# Altium schematic symbol library sch_inductor.SchLib: 1 symbol
Pins are listed as number, name and electrical type; pins without a type are passive.

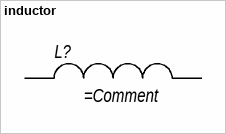
[diagram p0: symbol inductor]

## inductor
designator L?
pins: 1 (power), 2 (power)